# EAGLE library part CD74HC4067E (library HyTechDevices2)
Texas Instruments CD74HC4051E HIGH-SPEED CMOS LOGIC ANALOG 16 CHANNEL MULTIPLEXER/DEMULTIPLEXER
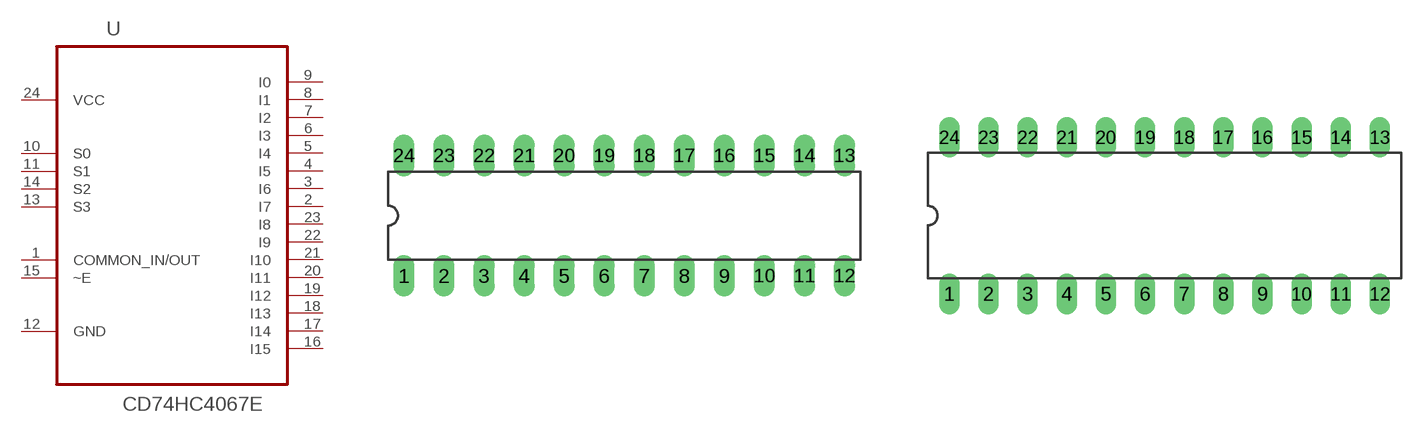
[diagram p40: symbol with the pads of DIL24-3; footprints DIL24-3, DIL24-4]

Designator prefix -

## CD74HC4067E0.3_INCH  [DIL24-3]
1  COMMON_IN/OUT
2  I7  in
3  I6  in
4  I5  in
5  I4  in
6  I3  in
7  I2  in
8  I1  in
9  I0  in
10  S0  in
11  S1  in
12  GND  pas
13  S3  in
14  S2  in
15  ~E  in
16  I15  in
17  I14  in
18  I13  in
19  I12  in
20  I11  in
21  I10  in
22  I9  in
23  I8  in
24  VCC  pwr

## CD74HC4067E0.4_INCH  [DIL24-4]
Pads as for DIL24-3

## Footprint DIL24-3 (pad centres in mm)
Dual In Line Package 0.3 inch
drill 0.813 long: 1 -13.97,-3.81; 2 -11.43,-3.81; 3 -8.89,-3.81; 4 -6.35,-3.81; 5 -3.81,-3.81; 6 -1.27,-3.81; 7 1.27,-3.81; 8 3.81,-3.81; 9 6.35,-3.81; 10 8.89,-3.81; 11 11.43,-3.81; 12 13.97,-3.81; 13 13.97,3.81; 14 11.43,3.81; 15 8.89,3.81; 16 6.35,3.81; 17 3.81,3.81; 18 1.27,3.81; 19 -1.27,3.81; 20 -3.81,3.81; 21 -6.35,3.81; 22 -8.89,3.81; 23 -11.43,3.81; 24 -13.97,3.81

## Footprint DIL24-4 (pad centres in mm)
Dual In Line Package 0.4 inch
drill 0.813 long: 1 -13.97,-5.08; 2 -11.43,-5.08; 3 -8.89,-5.08; 4 -6.35,-5.08; 5 -3.81,-5.08; 6 -1.27,-5.08; 7 1.27,-5.08; 8 3.81,-5.08; 9 6.35,-5.08; 10 8.89,-5.08; 11 11.43,-5.08; 12 13.97,-5.08; 13 13.97,5.08; 14 11.43,5.08; 15 8.89,5.08; 16 6.35,5.08; 17 3.81,5.08; 18 1.27,5.08; 19 -1.27,5.08; 20 -3.81,5.08; 21 -6.35,5.08; 22 -8.89,5.08; 23 -11.43,5.08; 24 -13.97,5.08